# EAGLE library part MF2X10M (library gost_con_mini-fit)
Molex Mini-Fit Jr.™ Connectors
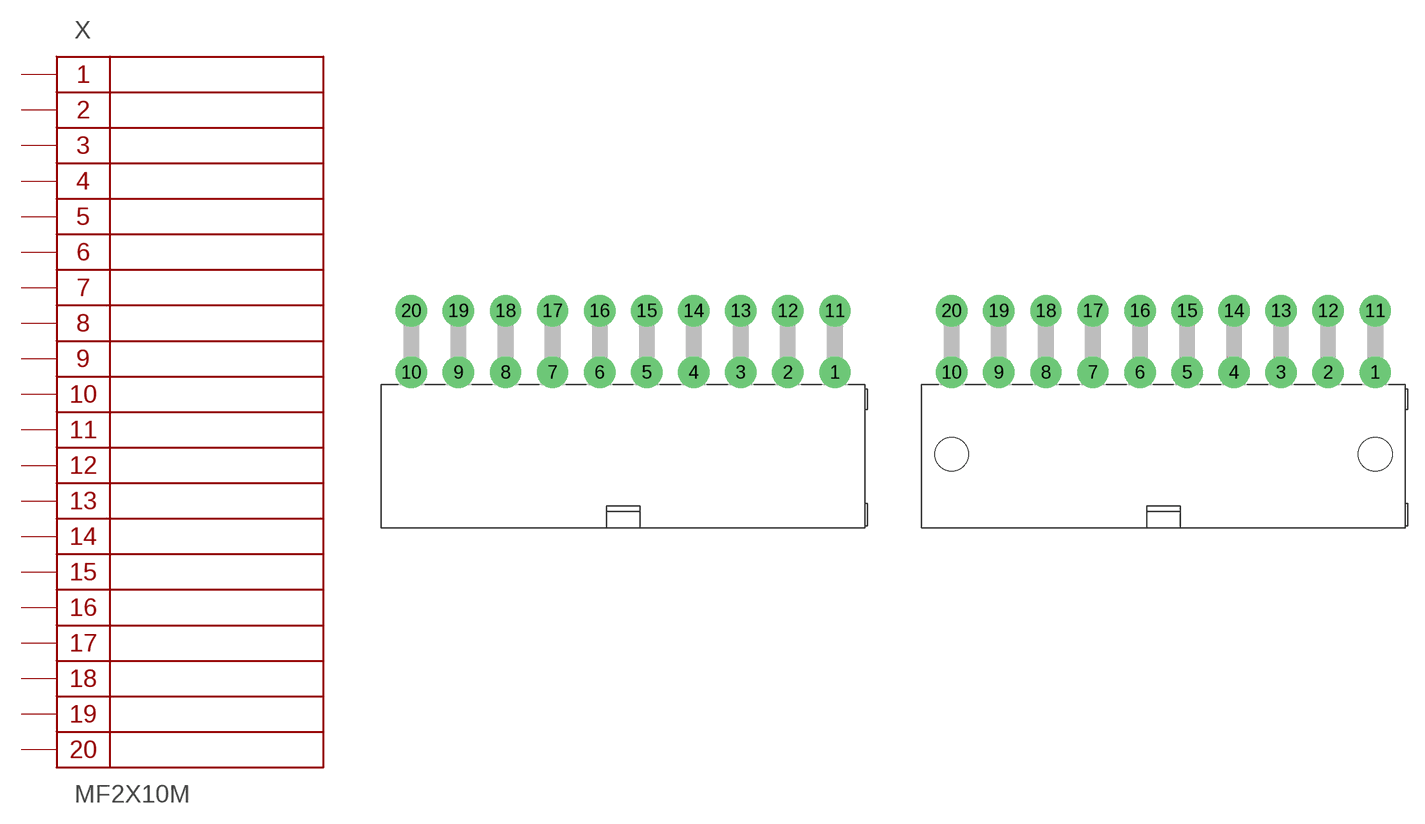
[diagram p6: symbol with the pads of MF2X10MR; footprints MF2X10MR, MF2X10MRA]

Designator prefix X

## MF2X10MR  [MF2X10MR]
1  1
2  2
3  3
4  4
5  5
6  6
7  7
8  8
9  9
10  10
11  11
12  12
13  13
14  14
15  15
16  16
17  17
18  18
19  19
20  20

## MF2X10MRA  [MF2X10MRA]
Pads as for MF2X10MR

## MF2X10MA  [MF2X10MA]
Pads as for MF2X10MR

## MF2X10MRB  [MF2X10MRB]
Pads as for MF2X10MR

## Footprint MF2X10MR (pad centres in mm)
drill 1.8 pad 2.8: 1 18.9,-2.1; 2 14.7,-2.1; 3 10.5,-2.1; 4 6.3,-2.1; 5 2.1,-2.1; 6 -2.1,-2.1; 7 -6.3,-2.1; 8 -10.5,-2.1; 9 -14.7,-2.1; 10 -18.9,-2.1; 11 18.9,3.4; 12 14.7,3.4; 13 10.5,3.4; 14 6.3,3.4; 15 2.1,3.4; 16 -2.1,3.4; 17 -6.3,3.4; 18 -10.5,3.4; 19 -14.7,3.4; 20 -18.9,3.4

## Footprint MF2X10MRA (pad centres in mm)
drill 1.8 pad 2.8: 1 18.9,-2.1; 2 14.7,-2.1; 3 10.5,-2.1; 4 6.3,-2.1; 5 2.1,-2.1; 6 -2.1,-2.1; 7 -6.3,-2.1; 8 -10.5,-2.1; 9 -14.7,-2.1; 10 -18.9,-2.1; 11 18.9,3.4; 12 14.7,3.4; 13 10.5,3.4; 14 6.3,3.4; 15 2.1,3.4; 16 -2.1,3.4; 17 -6.3,3.4; 18 -10.5,3.4; 19 -14.7,3.4; 20 -18.9,3.4
hole 3 at 18.9,-9.4
hole 3 at -18.9,-9.4

## Footprint MF2X10MA (pad centres in mm)
drill 1.4 pad 2.6: 1 18.9,-2.75; 2 14.7,-2.75; 3 10.5,-2.75; 4 6.3,-2.75; 5 2.1,-2.75; 6 -2.1,-2.75; 7 -6.3,-2.75; 8 -10.5,-2.75; 9 -14.7,-2.75; 10 -18.9,-2.75; 11 18.9,2.75; 12 14.7,2.75; 13 10.5,2.75; 14 6.3,2.75; 15 2.1,2.75; 16 -2.1,2.75; 17 -6.3,2.75; 18 -10.5,2.75; 19 -14.7,2.75; 20 -18.9,2.75

## Footprint MF2X10MRB (pad centres in mm)
drill 1.8 pad 2.8: 1 18.9,-2.1; 2 14.7,-2.1; 3 10.5,-2.1; 4 6.3,-2.1; 5 2.1,-2.1; 6 -2.1,-2.1; 7 -6.3,-2.1; 8 -10.5,-2.1; 9 -14.7,-2.1; 10 -18.9,-2.1; 11 18.9,3.4; 12 14.7,3.4; 13 10.5,3.4; 14 6.3,3.4; 15 2.1,3.4; 16 -2.1,3.4; 17 -6.3,3.4; 18 -10.5,3.4; 19 -14.7,3.4; 20 -18.9,3.4
hole 2.4 at 23.5,-6.3
hole 2.4 at -23.5,-6.3